# EAGLE library part 2301838-2 (library SamacSys_Parts)
TE CONNECTIVITY - 2301838-2 - D Sub Connector, DB9, Standard, Receptacle, 9 Contacts, DE, Solder Source: Datasheet <https://www.te.com/global-en/product-2301838-2.datasheet.pdf>
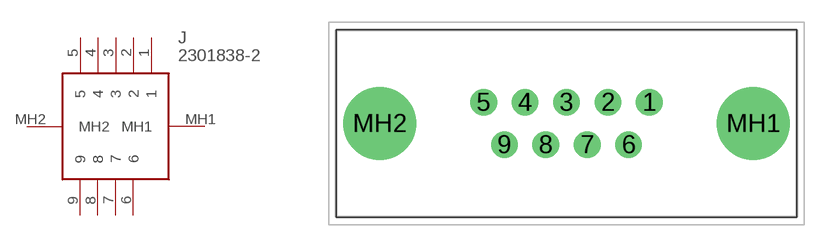
[diagram p1: symbol with the pads of 23018382; footprint 23018382]

Designator prefix J

## 2301838-2 (Description: TE CONNECTIVITY - 2301838-2 - D Sub Connector, DB9, Standard, Receptacle, 9 Contacts, DE, Solder; Height: mm; Manufacturer_Name: TE Connectivity; Manufacturer_Part_Number: 2301838-2; Mouser_Part_Number: 571-2301838-2; Mouser_Price-Stock: https://www.mouser.co.uk/ProductDetail/TE-Connectivity/2301838-2?qs=YCa%2FAAYMW00TbWYD0LSiFQ%3D%3D)  [23018382]
1  1
2  2
3  3
4  4
5  5
6  6
7  7
8  8
9  9
MH1  MH1
MH2  MH2

## Footprint 23018382 (pad centres in mm)
2301838-2-2
drill 1.19 pad 1.785: 1 0,0; 2 -2.77,0; 3 -5.54,0; 4 -8.31,0; 5 -11.08,0; 6 -1.385,-2.84; 7 -4.155,-2.84; 8 -6.925,-2.84; 9 -9.695,-2.84
drill 3.25 pad 4.875: MH1 6.955,-1.42; MH2 -18.035,-1.42